# Altium footprint library WE-PDA.PcbLib: 6 footprints
Each footprint in its own frame and in the unit in brackets; x right, y up, seen from the top. Pads: shape width x height; smd on the part's side, far side on the other; paste and mask are expansions set on the pad; w line width, h text height; cw(c..) or ccw(c..) is an arc to the next point about the centre after c.
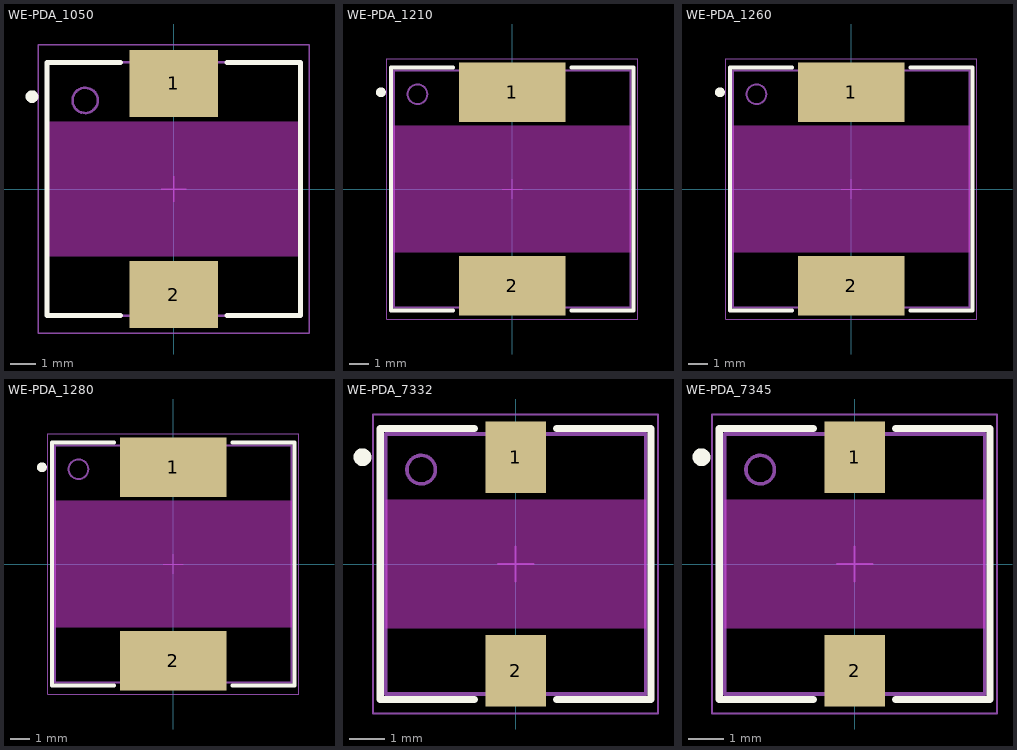
[diagram p0: the footprints below, top view; thin cyan lines are the x and y axes]

## WE-PDA_1050 [mm] "SMD Shielded Power Inductor, 2-leads, body 10x10mm"
height 5.3
pads (2):
  rect 3.5x2.65 smd: 1(0,4.175) 2(0,-4.175)
Top Layer keep-out:
  region: -5,2.65 5,2.65 5,-2.65 -5,-2.65
Top Overlay:
  circle w0.25: c-5.6,3.65 r0.125
  lines w0.2: -2.1,-5 -5,-5 -5,5 -2.1,5 ; 2.1,-5 5,-5 5,5 2.1,5
Top Designator:
  text ".Designator" at -7.498,-0.5 h1.5
Top Component Outline:
  circle w0.1: c-3.5,3.5 r0.5
  lines w0.1: -5,-5 -5,5 5,5 5,-5 -5,-5
Top 3D Body:
  circle w0.1: c-3.5,3.5 r0.5
  lines w0.1: -5,-5 -5,5 5,5 5,-5 -5,-5
Top Courtyard:
  lines w0.05: -5.35,-5.7 -5.35,5.7 5.35,5.7 5.35,-5.7 -5.35,-5.7
Top Component Center:
  lines w0.05: -0.5,0 0.5,0 ; 0,-0.5 0,0.5
3D body "7847714xxx_1050-v2.stp": height 4.96, standoff 0, extent -5,-5 5,5

## WE-PDA_1210 [mm] "SMD Shielded Power Inductor, 2-leads, body 12x12mm"
height 10
pads (2):
  rect 5.4x3 smd: 1(0,4.9) 2(0,-4.9)
Top Layer keep-out:
  region: -6,3.2 6,3.2 6,-3.2 -6,-3.2
Top Overlay:
  circle w0.25: c-6.65,4.9 r0.125
  lines w0.2: -3,-6.15 -6.15,-6.15 -6.15,6.15 -3,6.15 ; 3,-6.15 6.15,-6.15 6.15,6.15 3,6.15
Top Designator:
  text ".Designator" at -7.498,-0.5 h1.5
Top Component Outline:
  circle w0.1: c-4.8,4.8 r0.5
  lines w0.1: -6,-6 -6,6 6,6 6,-6 -6,-6
Top 3D Body:
  circle w0.1: c-4.8,4.8 r0.5
  lines w0.1: -6,-6 6,-6 6,6 -6,6 -6,-6
Top Courtyard:
  lines w0.05: -6.35,-6.6 -6.35,6.6 6.35,6.6 6.35,-6.6 -6.35,-6.6
Top Component Center:
  lines w0.05: -0.5,0 0.5,0 ; 0,-0.5 0,0.5
3D body "IndPDA_1210.stp": height 9.7, standoff 0.04, extent -6,-6 6,6

## WE-PDA_1260 [mm] "SMD Shielded Power Inductor, 2-leads, body 12x12mm"
height 6
pads (2):
  rect 5.4x3 smd: 1(0,4.9) 2(0,-4.9)
Top Layer keep-out:
  region: -6,3.2 6,3.2 6,-3.2 -6,-3.2
Top Overlay:
  circle w0.25: c-6.65,4.9 r0.125
  lines w0.2: -3,-6.15 -6.15,-6.15 -6.15,6.15 -3,6.15 ; 3,-6.15 6.15,-6.15 6.15,6.15 3,6.15
Top Designator:
  text ".Designator" at -7.498,-0.5 h1.5
Top Component Outline:
  circle w0.1: c-4.8,4.8 r0.5
  lines w0.1: -6,-6 -6,6 6,6 6,-6 -6,-6
Top 3D Body:
  circle w0.1: c-4.8,4.8 r0.5
  lines w0.1: -6,-6 6,-6 6,6 -6,6 -6,-6
Top Courtyard:
  lines w0.05: -6.35,-6.6 -6.35,6.6 6.35,6.6 6.35,-6.6 -6.35,-6.6
Top Component Center:
  lines w0.05: -0.5,0 0.5,0 ; 0,-0.5 0,0.5
3D body "IndPDA_1260.stp": height 5.9, standoff 0.04, extent -6,-6 6,6

## WE-PDA_1280 [mm] "SMD Shielded Power Inductor, 2-leads, body 12x12mm"
height 8
pads (2):
  rect 5.4x3 smd: 1(0,4.9) 2(0,-4.9)
Top Layer keep-out:
  region: -6,3.2 6,3.2 6,-3.2 -6,-3.2
Top Overlay:
  circle w0.25: c-6.65,4.9 r0.125
  lines w0.2: -3,-6.15 -6.15,-6.15 -6.15,6.15 -3,6.15 ; 3,-6.15 6.15,-6.15 6.15,6.15 3,6.15
Top Designator:
  text ".Designator" at -7.498,-0.5 h1.5
Top Component Outline:
  circle w0.1: c-4.8,4.8 r0.5
  lines w0.1: -6,-6 6,-6 6,6 -6,6 -6,-6
Top 3D Body:
  circle w0.1: c-4.8,4.8 r0.5
  lines w0.1: -6,-6 -6,6 6,6 6,-6 -6,-6
Top Courtyard:
  lines w0.05: -6.35,-6.6 6.35,-6.6 6.35,6.6 -6.35,6.6 -6.35,-6.6
Top Component Center:
  lines w0.05: -0.5,0 0.5,0 ; 0,-0.5 0,0.5
3D body "IndPDA_1280.stp": height 7.7, standoff 0.04, extent -6,-6 6,6

## WE-PDA_7332 [mm] "SMD Shielded Power Inductor, 2-leads, body 7.3x7.3mm"
height 3.2
pads (2):
  rect 1.7x2 smd: 1(0,3) 2(0,-3)
Top Layer keep-out:
  region: -3.65,1.8 3.65,1.8 3.65,-1.8 -3.65,-1.8
Top Overlay:
  circle w0.25: c-4.3,3 r0.125
  lines w0.2: -1.15,-3.8 -3.8,-3.8 -3.8,3.8 -1.15,3.8 ; 1.15,-3.8 3.8,-3.8 3.8,3.8 1.15,3.8
Top Designator:
  text ".Designator" at -7.498,-0.5 h1.5
Top Component Outline:
  circle w0.1: c-2.65,2.65 r0.4
  lines w0.1: -3.65,-3.65 3.65,-3.65 3.65,3.65 -3.65,3.65 -3.65,-3.65
Top 3D Body:
  circle w0.1: c-2.65,2.65 r0.4
  lines w0.1: -3.65,-3.65 -3.65,3.65 3.65,3.65 3.65,-3.65 -3.65,-3.65
Top Courtyard:
  lines w0.05: -4,-4.2 4,-4.2 4,4.2 -4,4.2 -4,-4.2
Top Component Center:
  lines w0.05: -0.5,0 0.5,0 ; 0,-0.5 0,0.5
3D body "IndPDA_7332.stp": height 3.2, standoff 0, extent -3.65,-3.65 3.65,3.65

## WE-PDA_7345 [mm] "SMD Shielded Power Inductor, 2-leads, body 7.3x7.3mm"
height 4
pads (2):
  rect 1.7x2 smd: 1(0,3) 2(0,-3)
Top Layer keep-out:
  region: -3.65,1.8 3.65,1.8 3.65,-1.8 -3.65,-1.8
Top Overlay:
  circle w0.25: c-4.3,3 r0.125
  lines w0.2: -1.15,-3.8 -3.8,-3.8 -3.8,3.8 -1.15,3.8 ; 1.15,-3.8 3.8,-3.8 3.8,3.8 1.15,3.8
Top Designator:
  text ".Designator" at -7.498,-0.5 h1.5
Top Component Outline:
  circle w0.1: c-2.65,2.65 r0.4
  lines w0.1: -3.65,-3.65 3.65,-3.65 3.65,3.65 -3.65,3.65 -3.65,-3.65
Top 3D Body:
  circle w0.1: c-2.65,2.65 r0.4
  lines w0.1: -3.65,-3.65 -3.65,3.65 3.65,3.65 3.65,-3.65 -3.65,-3.65
Top Courtyard:
  lines w0.05: -4,-4.2 4,-4.2 4,4.2 -4,4.2 -4,-4.2
Top Component Center:
  lines w0.05: -0.5,0 0.5,0 ; 0,-0.5 0,0.5
3D body "IndPDA_7345.stp": height 4, standoff 0, extent -3.65,-3.65 3.65,3.65